# EAGLE library part CC2530-WIRELESS_MODULE (library BaseApp)
Digikey Number :- __296-24407-1-ND__
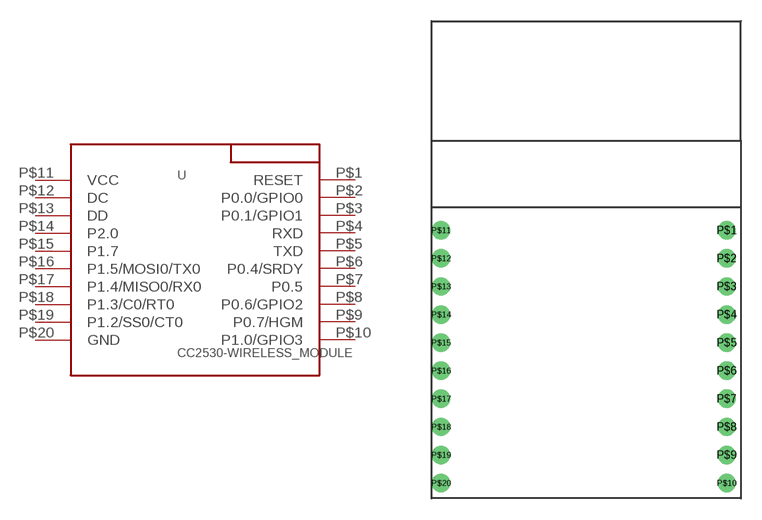
[diagram p53: symbol with the pads of CC2530-WIRELESS_MODULE; footprint CC2530-WIRELESS_MODULE]

Designator prefix -

## CC2530-WIRELESS_MODULE  [CC2530-WIRELESS_MODULE]
P$1  RESET
P$2  P0.0/GPIO0
P$3  P0.1/GPIO1
P$4  RXD
P$5  TXD
P$6  P0.4/SRDY
P$7  P0.5
P$8  P0.6/GPIO2
P$9  P0.7/HGM
P$10  P1.0/GPIO3
P$11  VCC
P$12  DC
P$13  DD
P$14  P2.0
P$15  P1.7
P$16  P1.5/MOSI0/TX0
P$17  P1.4/MISO0/RX0
P$18  P1.3/C0/RT0
P$19  P1.2/SS0/CT0
P$20  GND

## Footprint CC2530-WIRELESS_MODULE (pad centres in mm)
drill 0.8: P$1 10,6.35; P$2 10,4.35; P$3 10,2.35; P$4 10,0.35; P$5 10,-1.65; P$6 10,-3.65; P$7 10,-5.65; P$8 10,-7.65; P$9 10,-9.65; P$10 10,-11.65; P$11 -10.32,6.35; P$12 -10.32,4.35; P$13 -10.32,2.35; P$14 -10.32,0.35; P$15 -10.32,-1.65; P$16 -10.32,-3.65; P$17 -10.32,-5.65; P$18 -10.32,-7.65; P$19 -10.32,-9.65; P$20 -10.32,-11.65